# Altium schematic symbol library Cap_Kemet_C0603C101J5RACTU_100pF.SchLib: 1 symbol
Pins are listed as number, name and electrical type; pins without a type are passive.

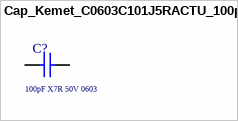
[diagram p0: symbol Cap_Kemet_C0603C101J5RACTU_100pF]

## Cap_Kemet_C0603C101J5RACTU_100pF
designator C?  Capacitance: 100pF X7R 50V 0603  (hidden comment: Cap_Kemet_C0603C101J5RACTU_100pF)
CAP CER 100pF 50V X7R 0603; Supplier 1: Mouser; Supplier Part Number 1: 80-C0603C101J5R
footprint Cap_Kemet_C0603C101J5RACTU_100pF
pins: 1, 2